# EAGLE library part TM4C123GXL (library MISC)
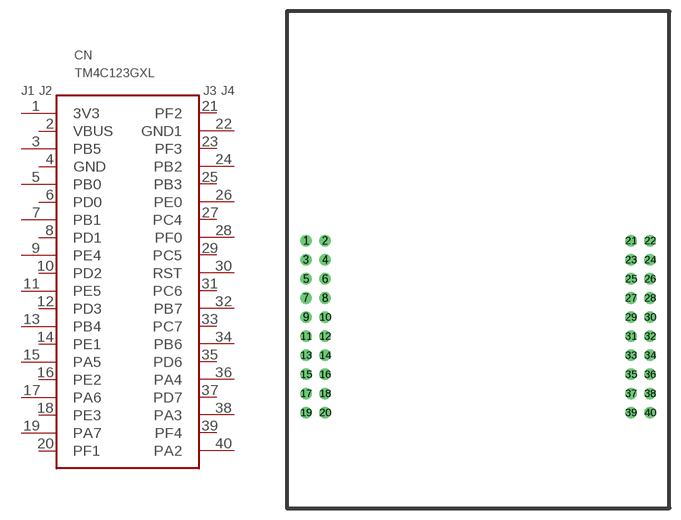
[diagram p3: symbol with the pads of TM4C123GXL; footprint TM4C123GXL]

Designator prefix CN

## TM4C123GXL  [TM4C123GXL]
1  3V3
2  VBUS
3  PB5
4  GND
5  PB0
6  PD0
7  PB1
8  PD1
9  PE4
10  PD2
11  PE5
12  PD3
13  PB4
14  PE1
15  PA5
16  PE2
17  PA6
18  PE3
19  PA7
20  PF1
21  PF2
22  GND1
23  PF3
24  PB2
25  PB3
26  PE0
27  PC4
28  PF0
29  PC5
30  RST
31  PC6
32  PB7
33  PC7
34  PB6
35  PD6
36  PA4
37  PD7
38  PA3
39  PF4
40  PA2

## Footprint TM4C123GXL (pad centres in mm)
drill 1: 1 -22.5,2.5; 2 -20,2.5; 3 -22.5,0; 4 -20,0; 5 -22.5,-2.5; 6 -20,-2.5; 7 -22.5,-5; 8 -20,-5; 9 -22.5,-7.5; 10 -20,-7.5; 11 -22.5,-10; 12 -20,-10; 13 -22.5,-12.5; 14 -20,-12.5; 15 -22.5,-15; 16 -20,-15; 17 -22.5,-17.5; 18 -20,-17.5; 19 -22.5,-20; 20 -20,-20; 21 20,2.5; 22 22.5,2.5; 23 20,0; 24 22.5,0; 25 20,-2.5; 26 22.5,-2.5; 27 20,-5; 28 22.5,-5; 29 20,-7.5; 30 22.5,-7.5; 31 20,-10; 32 22.5,-10; 33 20,-12.5; 34 22.5,-12.5; 35 20,-15; 36 22.5,-15; 37 20,-17.5; 38 22.5,-17.5; 39 20,-20; 40 22.5,-20